# Altium schematic symbol library Soldering_Trainer_Prj (backup).SCHLIB: 19 symbols
Pins are listed as number, name and electrical type; pins without a type are passive.

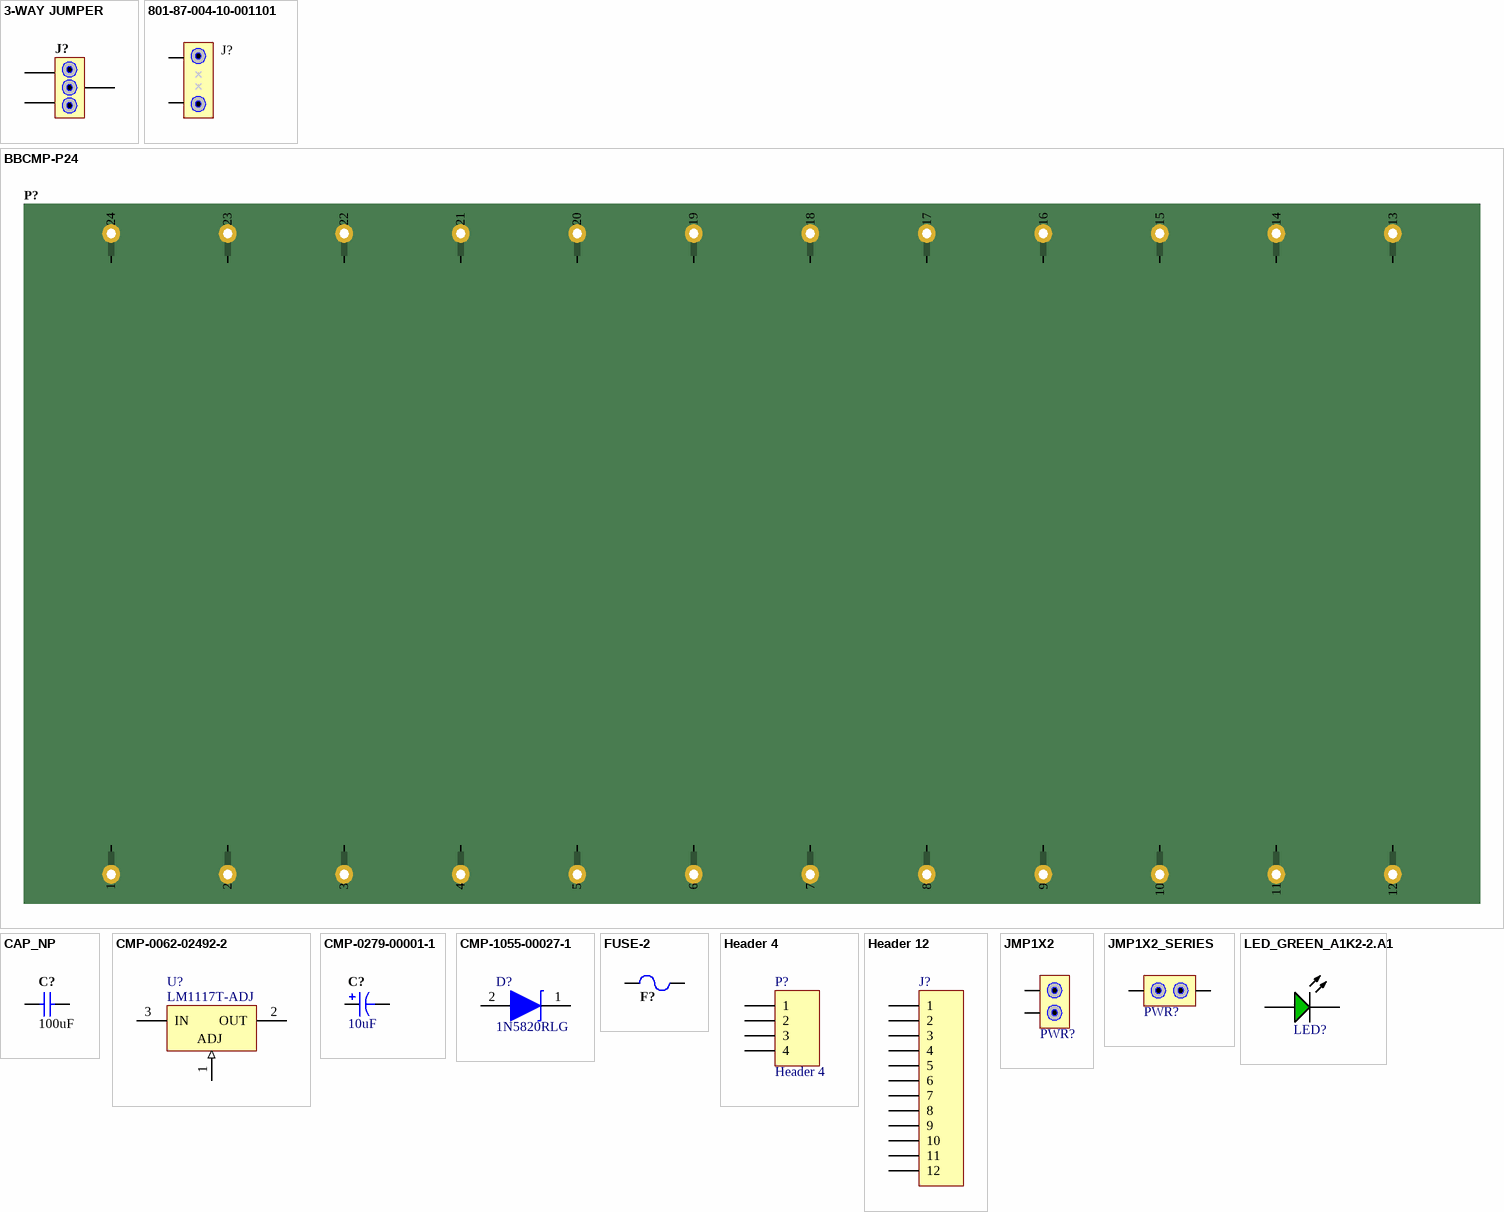
[diagram p0: symbols 3-WAY JUMPER to LED_GREEN_A1K2-2.A1]

## 3-WAY JUMPER
designator J?  (value not drawn)
3-Way Jumper - Center Output; Manufacturer_PN: 71417-103HLF; Manufacturer Part Number: 71417-103HLF
footprint HDR1X3 (Connector; Header; 3 Position)
signal-integrity model Connector
pins: 1, 2, 3

## 801-87-004-10-001101
designator J?  (value not drawn)
IC REG LDO 3V3 .3A SOT25; Manufacturer Part Number: 801-87-004-10-001101; Digikey Part Number: 1212-1181-ND
footprint HDR1X4 (Connector; Header; 4 Position)
pins: 1, 4

## BBCMP-P24
designator P?, comment BBCMP-P24-M1200X700  (value not drawn)
ID: MOD-0100-0197; DefaultDesignator: P?; Class: Module; Sub Class: PCB - Module; Manufacturer_PN: BBCMP-P24-M1200x700
footprint BBCMP-P24-M1200X700
pins: 1, 2, 3, 4, 5, 6, 7, 8, 9, 10, 11, 12, 13, 14, 15, 16, 17, 18, 19, 20, 21, 22, 23, 24

## CAP_NP
designator C?, comment value 100uF  (hidden comment: AP 100uF 6.3V 1206(3216))
CAP 100uF 6.3V ?0% 1206 (3216 Metric) Thickness 1.9mm SMD; Case-Metric: 3216; Case-EIA: 1206; ID: CMP-0402-0000; Rated Voltage: 6.3 V; Max Thickness: 1.9 mm; Technology: SMT; Tolerance: ?0%
footprint CAPC1206(3216)190_L
pins: 1, 2
1 alternate drawing of the same symbol

## CMP-0062-02492-2
designator U?, comment LM1117T-ADJ
800mA Low-Dropout Linear Regulator, 3-pin TO-220, Pb-Free; Manufacturer: National Semiconductor; PackageTopMarking: NSUZXYTTE#*LM1117T*ADJ; CompType: LDO IC; PowerWise: N; ComponentLink1URL: http://www.national.com/ds/LM/LM1117.pdf; ComponentLink1Description: LM1117 Datasheet; DatasheetVersion: Apr-2006; ComponentLink2Description: LM1117 Web Page; PackageVersion: revL, Jan-1992; RoHS: Y; PackageReference: T03B; ComponentLink3Description: T03B Package Page; RevisionNote: Component URLs added; PackageDescription: TO-220, Molded, 3 Lead, Straight; ComponentLink3URL: http://www.national.com/packaging/folders/t03b.html; ComponentLink2URL: http://www.national.com/pf/LM/LM1117.html; PinCount: 3
footprint T03B (TO, Thru-Hole, Vertical, Heatsink Mounted; 3 In-Line Leads; Pitch 2.54 mm)
pins: 1 ADJ (in), 2 OUT (power), 3 IN (power)

## CMP-0279-00001-1
designator C?, comment Capacitance: 10uF  (hidden comment: TAJB106K020R)
Capacitor, Tantalum, 10uF 10% 20V MCCT-B (3528); Manufacturer: AVX; Polarity: Polarized; PartNumber: TAJB106K020R; PackageDescription: 2-Pin SMT Capacitor, 3.5 x 2.8 mm Body; ComponentLink1URL: http://www.avx.com/; PackageReference: CAPC3528; ComponentLink2Description: Datasheet; Technology: Tantalum; ComponentLink2URL: http://www.avx.com/docs/Catalogs/taj.pdf; Tolerance: 10%; ComponentLink1Description: Manufacturer URL; Rated Voltage: 20V; DatasheetVersion: Jun-13; Mounting Technology: Surface Mount; Manufacturer_PN: TAJB106K020R; Manufacturer Part Number: TAJB106K020R
footprint AVX-CAPC3528_V (SMT Capacitor, 2 Leads, Body 3.5x2.8mm)
pins: 1, 2

## CMP-1055-00027-1
designator D?, comment 1N5820RLG
Rectifier, 2-Pin Axial_Lead, Pb-Free, Tape and Reel; Manufacturer: On Semiconductor; Configuration: Single; IFSM Max (A): 80; ComponentLink3Description: Package Specification; PartNumber: 1N5820RLG; PackageReference: AXIAL_LEAD-2-267-05; Mounting Technology: Through Hole; ComponentLink3URL: http://www.onsemi.com/pub_link/Collateral/267-05.PDF; ComponentLink2Description: Datasheet; ComponentLink1URL: http://www.onsemi.com/; PackageVersion: Rev. G, 06/2000; Packing: Tape and Reel; DatasheetVersion: Rev. 10; RoHS: TRUE; ComponentLink2URL: http://www.onsemi.cn/pub_link/Collateral/1N5820-D.PDF; ComponentLink1Description: Manufacturer URL; PackageDescription: 2-Pin, Axial Lead, Diameter 5.05 mm
footprint ONSC-AXIAL_LEAD-2-267-05_V (AXIAL, 2-Leads, Diameter 5.05mm)
pins: 1 K, 2 A

## FUSE-2
designator F?, comment SMD2920P300TF  (value not drawn)
PTC RESETTABLE 16V 3A SMD 2920; Class: Discrete; ID: CMP-0204-0023; Sub Class: Fuse; DefaultDesignator: F?; Manufacturer_PN: SMD2920P300TF
footprint FUSE2920
pins: 1, 2

## Header 4
designator P?
Header, 4-Pin; LatestRevisionDate: 17-Jul-2002; LatestRevisionNote: Re-released for DXP Platform.; Publisher: Altium Limited
footprint HDR1X4 (Connector; Header; 4 Position)
signal-integrity model Connector
pins: 1, 2, 3, 4

## Header 12
designator J?  (value not drawn)
Header, 12-Pin; LatestRevisionDate: 17-Jul-2002; LatestRevisionNote: Re-released for DXP Platform.; Publisher: Altium Limited
footprint HDR1X12 (Connector; Header; 12 Position)
signal-integrity model Connector
pins: 1, 2, 3, 4, 5, 6, 7, 8, 9, 10, 11, 12

## JMP1X2
designator PWR?, comment Jumper  (value not drawn)
Standard 2 Pin Jumper, 100mil spacing; Manufacturer_PN: M20-9770246; Manufacturer Part Number: M20-9770246
footprint JMP1X2 (Footprint not found)
signal-integrity model Connector
pins: 1, 2

## JMP1X2_SERIES
designator PWR?, comment Jumper  (value not drawn)
Standard 2 Pin Jumper, 100mil spacing; Manufacturer_PN: M20-9770246; Manufacturer Part Number: M20-9770246
footprint JMP1X2 (Footprint not found)
signal-integrity model Connector
pins: 1, 2

## LED_GREEN_A1K2-2.A1
designator LED?, comment LED_1206  (value not drawn)
GREEN color, 1206, SMD; Manufacturer_PN: 1206-LED-GREEN; ID: CMP-0201-0036; DefaultDesignator: LED?; Class: Diodes; Sub Class: LED; Reverse Voltage DC (Vr): Green; ComponentLink1Description: Datasheet; ComponentLink2Description: Manufacturer
footprint RESC1206(3216)75_L
pins: 1 A, 2 K

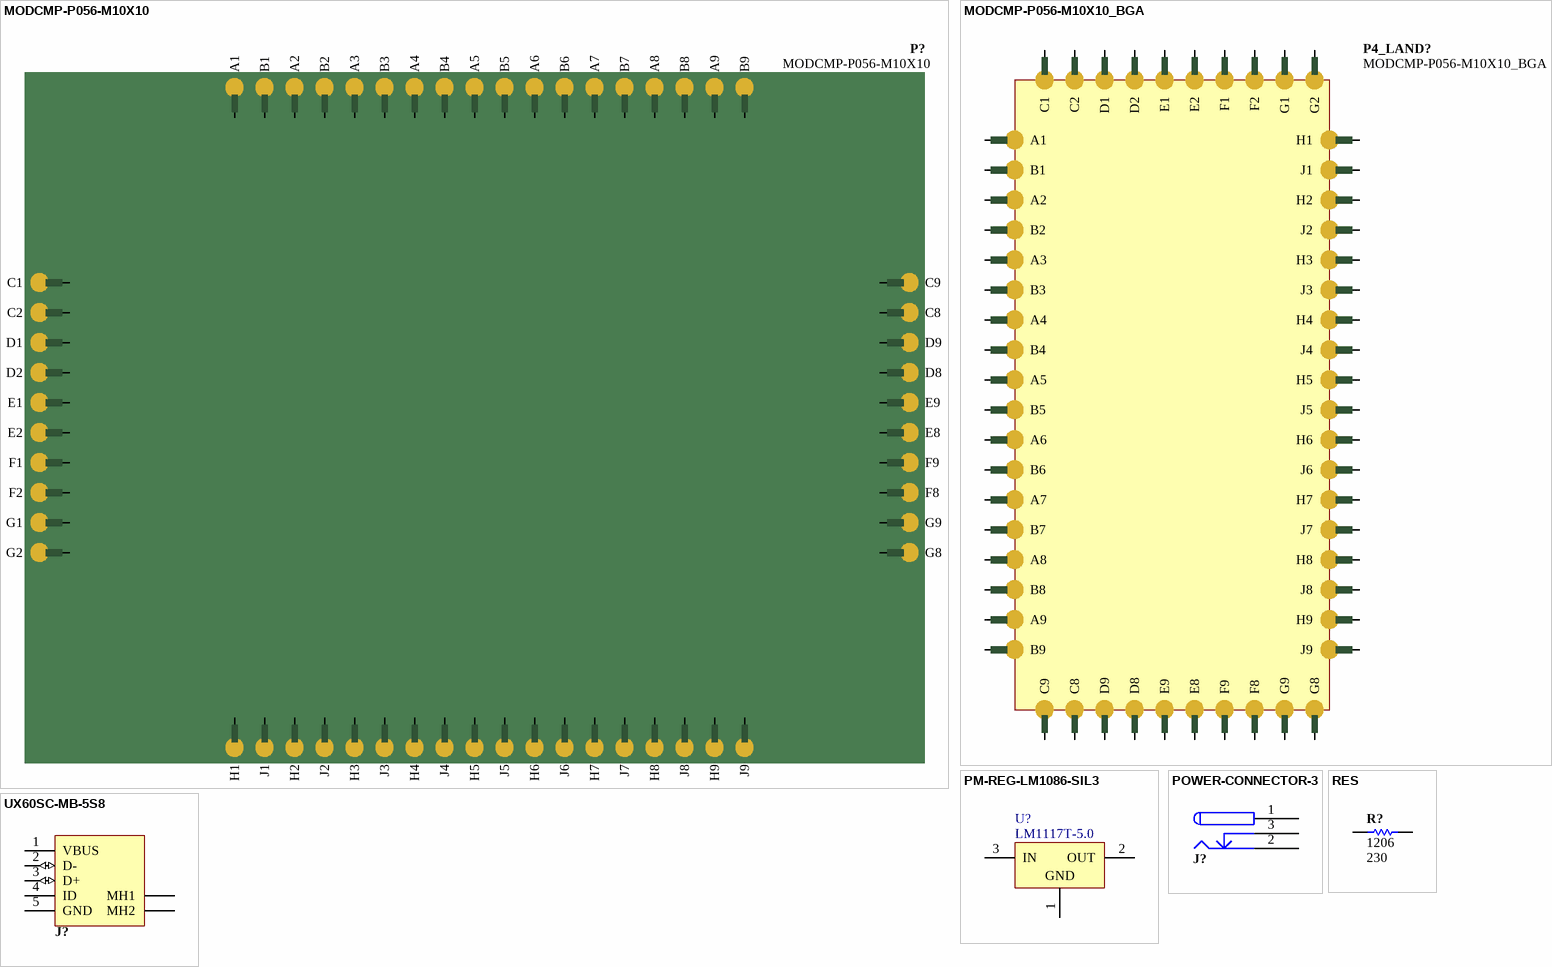
[diagram p1: symbols MODCMP-P056-M10X10 to UX60SC-MB-5S8]

## MODCMP-P056-M10X10
designator P?  (no BOM)
Module Component - 1mm Pitch, 56-Pin, 10mmX10mm; DefaultDesignator: P?; Sub Class: PCB - Module; ID: MOD-0100-0123; Class: Module; Manufacturer_PN: MODCMP-P056-M10X10
footprint MODCMP-P056-M10X10
pins: A1, A2, A3, A4, A5, A6, A7, A8, A9, B1, B2, B3, B4, B5, B6, B7, B8, B9, C1, C2, C8, C9, D1, D2, D8, D9, E1, E2, E8, E9, F1, F2, F8, F9, G1, G2, G8, G9, H1, H2, H3, H4, H5, H6, H7, H8, H9, J1, J2, J3, J4, J5, J6, J7, J8, J9

## MODCMP-P056-M10X10_BGA
designator P4_LAND?  (no BOM)
Module Component - 1mm Pitch, 56-Pin, 10mmX10mm; DefaultDesignator: P?; Sub Class: PCB - Module; ID: MOD-0100-0123; Class: Module; Manufacturer_PN: MODCMP-P056-M10X10
footprint MB2100.01.A.2
pins: A1, A2, A3, A4, A5, A6, A7, A8, A9, B1, B2, B3, B4, B5, B6, B7, B8, B9, C1, C2, C8, C9, D1, D2, D8, D9, E1, E2, E8, E9, F1, F2, F8, F9, G1, G2, G8, G9, H1, H2, H3, H4, H5, H6, H7, H8, H9, J1, J2, J3, J4, J5, J6, J7, J8, J9

## PM-REG-LM1086-SIL3
designator U?, comment LM1117T-5.0
800mA Low-Dropout Linear Regulator, 3-pin TO-220; Manufacturer: National Semiconductor; PackageTopMarking: NSUZXYTTE#*LM1117T*5.0; CompType: LDO IC; PowerWise: N; DatasheetVersion: Apr-2006; ComponentLink2URL: http://www.national.com/pf/LM/LM1117.html; PackageReference: T03B; ComponentLink3URL: http://www.national.com/packaging/folders/t03b.html; PackageVersion: revL, Jan-1992; RoHS: N; PackageDescription: TO-220, Molded, 3 Lead, Straight; ComponentLink1URL: http://www.national.com/ds/LM/LM1117.pdf; PinCount: 3; ComponentLink3Description: T03B Package Page; ComponentLink2Description: LM1117 Web Page; ComponentLink1Description: LM1117 Datasheet; RevisionNote: Component URLs added
footprint T03B (TO, Thru-Hole, Vertical, Heatsink Mounted; 3 In-Line Leads; Pitch 2.54 mm)
pins: 1 GND (power), 2 OUT (power), 3 IN (power)

## POWER-CONNECTOR-3
designator J?, comment PWR CONNECTOR  (value not drawn)
Connector, 3 Conductor Power Jack; Manufacturer_PN: CP-102AH-ND; Connector type: POWERJACK 3 HEADER; ClassName: PWR_CONN_5V0; Category: Connector; Mounting Technology: PTH; Pin Count: 3; Manufacturer Part Number: CP-102AH-ND
footprint PJ-102AH (Footprint not found)
3D model Socket_1
pins: 1 (power), 2 (power), 3 (power)

## RES
designator R?, comment 1206  Value (Ohms): 230
Jumper 0805 (2012 Metric); ID: CMP-0501-0000; Value: 0R; Case-Metric: 2012; Temp Coefficient ppm/°C: None; Case-EIA: 1206; Tolerance %: None; Power: None; Technology: SMT
footprint RESC1206(3216)75_L (Chip Resistor, Body 3.2x1.6mm, IPC High Density)
footprint RESC0805(2012)_N
pins: 1, 2
1 alternate drawing of the same symbol

## UX60SC-MB-5S8
designator J?  (value not drawn)
CONN RCPT MINI USB2.0 5POS SLD; ID: CMP-0300-0119; DefaultDesignator: J?; Class: Connector; Sub Class: USB; Manufacturer_PN: UX60SC-MB-5S8; ComponentLink1Description: Datasheet; ComponentLink2Description: Manufacturer; ComponentLink1URL: http://www.hirose.co.jp/cataloge_hp/e24000153.pdf; ComponentLink2URL: http://www.hirose.com
footprint UX60SC-MB-5S8
pins: 1 VBUS (power), 2 D- (io), 3 D+ (io), 4 ID, 5 GND (power), MH1, MH2